# EAGLE library part OPAMP_TLV3702 (library GTOR - Active Components)
Comparator General Purpose CMOS, Push-Pull, Rail-to-Rail 8-PDIP
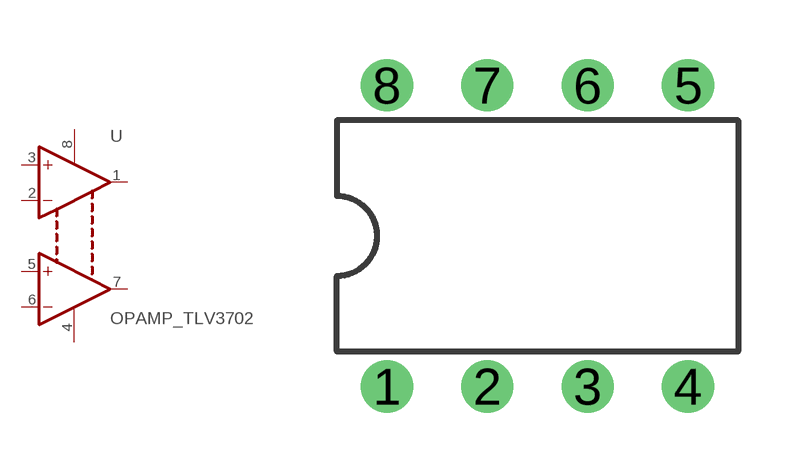
[diagram p3: symbol with the pads of DIL08; footprint DIL08]

Designator prefix -

## OPAMP_TLV3702  [DIL08]
1  1OUT  out
2  1IN-  in
3  1IN+  in
4  V-  pwr
5  2IN+  in
6  2IN-  in
7  2OUT  out
8  V+  pwr

## Footprint DIL08 (pad centres in mm)
Dual In Line Package
drill 0.813 pad 1.27: 1 -3.81,-3.81; 2 -1.27,-3.81; 3 1.27,-3.81; 4 3.81,-3.81; 5 3.81,3.81; 6 1.27,3.81; 7 -1.27,3.81; 8 -3.81,3.81